# Altium integrated library Рез 5.1.IntLib: 1 symbol
Pins are listed as number, name and electrical type; pins without a type are passive.

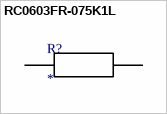
[diagram p0: symbol RC0603FR-075K1L]

## RC0603FR-075K1L
designator R?
5.1 kOhms Â±1% 0.1W, 1/10W Chip Resistor 0603 (1608 Metric) Moisture Resistant Thick Film; Типоразмер: 0603; Сопротивление: 5.1 кОм; Мощность: 0.063 Вт; Точность: 1%; Рабочее напряжение: 200 В
footprint RESC1607X60N
pins: 1, 2